# Altium footprint library oscilator.PcbLib: 34 footprints (part 2 of 3)
Each footprint in its own frame and in the unit in brackets; x right, y up, seen from the top. Pads: shape width x height; smd on the part's side, far side on the other; paste and mask are expansions set on the pad; w line width, h text height; cw(c..) or ccw(c..) is an arc to the next point about the centre after c.
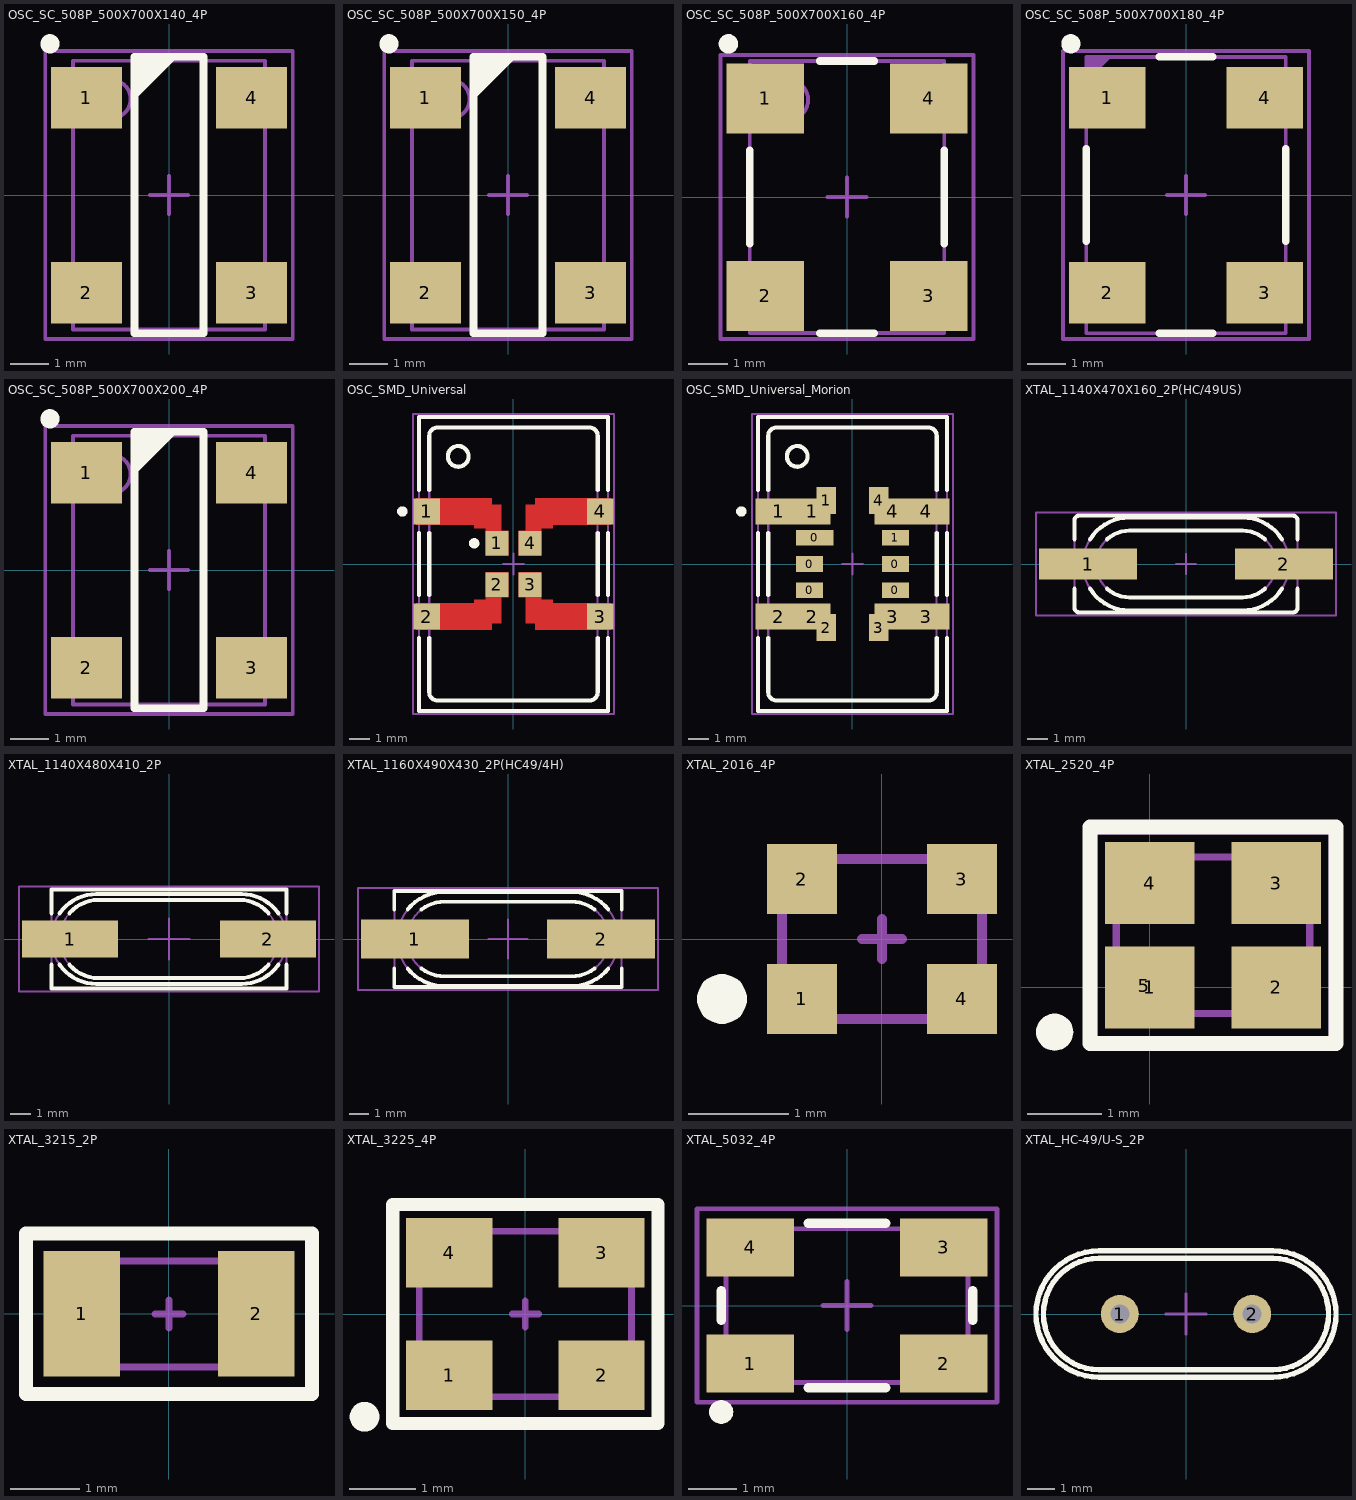
[diagram p1: the footprints below, top view; thin cyan lines are the x and y axes]

## OSC_SC_508P_500X700X140_4P [mm] "Oscillator,side concave; 5.08mm pitch; 4 pin,5.00mm L X 7.00mm W X 1.40mm H, IPC Medium Density"
height 1.4
pads (4):
  rect 1.85x1.6 smd: 1(-2.15,2.54) 2(-2.15,-2.54) 3(2.15,-2.54) 4(2.15,2.54)
Top Overlay:
  circle w0.25: c-3.1,3.94 r0.125
  lines w0.2: -0.9,2.6 0.1,3.6 ; -0.9,2.8 -0.1,3.6 ; -0.9,3 -0.3,3.6 ; -0.9,3.2 -0.5,3.6 ; -0.9,3.4 -0.7,3.6 ; -0.9,-3.6 -0.9,3.6 0.9,3.6 0.9,-3.6 -0.9,-3.6
Mechanical 1:
  circle w0.1: c-1.5,2.5 r0.5
  lines w0.1: -2.5,-3.5 -2.5,3.5 2.5,3.5 2.5,-3.5 -2.5,-3.5
Mechanical 15:
  lines w0.1: -0.5,0 0.5,0 ; 0,-0.5 0,0.5 ; -3.225,-3.75 -3.225,3.75 3.225,3.75 3.225,-3.75 -3.225,-3.75
3D body "OSCSC508P500X700X140-4N.stp": height 1.4, standoff 0, extent -2.6,-3.6 2.6,3.6

## OSC_SC_508P_500X700X150_4P [mm] "CFPS-72-73 Case, SMD Oscillator, side convave, 4 pins, 5.00x7.00mm"
height 1.5
pads (4):
  rect 1.85x1.6 smd: 1(-2.15,2.54) 2(-2.15,-2.54) 3(2.15,-2.54) 4(2.15,2.54)
Top Overlay:
  circle w0.25: c-3.1,3.94 r0.125
  lines w0.2: -0.9,2.6 0.1,3.6 ; -0.9,2.8 -0.1,3.6 ; -0.9,3 -0.3,3.6 ; -0.9,3.2 -0.5,3.6 ; -0.9,3.4 -0.7,3.6 ; -0.9,-3.6 -0.9,3.6 0.9,3.6 0.9,-3.6 -0.9,-3.6
Mechanical 1:
  circle w0.1: c-1.5,2.5 r0.5
  lines w0.1: -2.5,-3.5 -2.5,3.5 2.5,3.5 2.5,-3.5 -2.5,-3.5
Mechanical 15:
  lines w0.1: -0.5,0 0.5,0 ; 0,-0.5 0,0.5 ; -3.225,-3.75 3.225,-3.75 3.225,3.75 -3.225,3.75 -3.225,-3.75
3D body "OSCSC508P500X700X150-4N.stp": height 1.5, standoff 0, extent -2.6,-3.6 2.6,3.6

## OSC_SC_508P_500X700X160_4P [mm] "SMD Oscillator, side convave, 4 pins, 5.00x7.00mm"
height 1.6
pads (4):
  rect 2x1.8 smd: 1(-2.1,2.54) 2(-2.1,-2.54) 3(2.1,-2.54) 4(2.1,2.54)
Top Overlay:
  circle w0.25: c-3.05,3.94 r0.125
  lines w0.2: -2.5,-1.2 -2.5,1.2 ; -0.7,-3.5 0.7,-3.5 ; -0.7,3.5 0.7,3.5 ; 2.5,-1.2 2.5,1.2
Mechanical 1:
  circle w0.1: c-1.5,2.5 r0.5
  lines w0.1: -2.5,-3.5 2.5,-3.5 2.5,3.5 -2.5,3.5 -2.5,-3.5
Mechanical 15:
  lines w0.1: -0.5,0 0.5,0 ; 0,-0.5 0,0.5 ; -3.25,-3.65 3.25,-3.65 3.25,3.65 -3.25,3.65 -3.25,-3.65
3D body "OSCSC508P500X700X160-4N.stp": height 1.6, standoff 0, extent -2.6,-3.6 2.6,3.6

## OSC_SC_508P_500X700X180_4P [mm] "SMD Oscillator, side convave, 4 pins, 5.00x7.00mm"
height 1.8
pads (4):
  rect 2x1.6 smd: 1(-2.05,2.54) 2(-2.05,-2.54) 3(2.05,-2.54) 4(2.05,2.54)
Top Overlay:
  circle w0.25: c-3,3.94 r0.125
  lines w0.2: -2.6,-1.2 -2.6,1.2 ; -0.7,-3.6 0.7,-3.6 ; -0.7,3.6 0.7,3.6 ; 2.6,-1.2 2.6,1.2
Mechanical 1:
  lines w0.1: -2.6,3 -2,3.6 ; -2.6,3.1 -2.1,3.6 ; -2.6,3.2 -2.2,3.6 ; -2.6,3.3 -2.3,3.6 ; -2.6,3.4 -2.4,3.6 ; -2.6,3.5 -2.5,3.6 ; -2.6,-3.6 2.6,-3.6 2.6,3.6 -2.6,3.6 -2.6,-3.6
Mechanical 15:
  lines w0.1: -0.5,0 0.5,0 ; 0,-0.5 0,0.5 ; -3.2,-3.75 3.2,-3.75 3.2,3.75 -3.2,3.75 -3.2,-3.75
3D body "OSCSC508P500X700X180-4N.stp": height 1.8, standoff 0, extent -2.6,-3.6 2.6,3.6

## OSC_SC_508P_500X700X200_4P [mm] "CFPT Case, SMD Oscillator, side convave, 4 pins, 5.00x7.00mm"
height 2
pads (4):
  rect 1.85x1.6 smd: 1(-2.15,2.54) 2(-2.15,-2.54) 3(2.15,-2.54) 4(2.15,2.54)
Top Overlay:
  circle w0.25: c-3.1,3.94 r0.125
  lines w0.2: -0.9,2.6 0.1,3.6 ; -0.9,2.8 -0.1,3.6 ; -0.9,3 -0.3,3.6 ; -0.9,3.2 -0.5,3.6 ; -0.9,3.4 -0.7,3.6 ; -0.9,-3.6 0.9,-3.6 0.9,3.6 -0.9,3.6 -0.9,-3.6
Mechanical 1:
  circle w0.1: c-1.5,2.5 r0.5
  lines w0.1: -2.5,-3.5 2.5,-3.5 2.5,3.5 -2.5,3.5 -2.5,-3.5
Mechanical 15:
  lines w0.1: -0.5,0 0.5,0 ; 0,-0.5 0,0.5 ; -3.225,-3.75 -3.225,3.75 3.225,3.75 3.225,-3.75 -3.225,-3.75
3D body "OSCSC508P500X700X200-4N.stp": height 2, standoff 0, extent -2.6,-3.6 2.6,3.6

## OSC_SMD_Universal [mm] "Oscillator SMD Universal"
height 5.3
pads (8):
  rect 1.27x1.27 smd: 1(-4.19,2.54) 2(-4.19,-2.54) 3(4.19,-2.54) 4(4.19,2.54)
  rect 1.1x1.2 smd: 1(-0.8,1) 2(-0.8,-1) 3(0.8,-1) 4(0.8,1)
Top Layer:
  region: 1.35,-0.4 1.35,-1.806 0.601,-1.806 0.601,-1.6 0.25,-1.6 0.25,-0.4
  region: 1.9,-1.905 3.24,-1.905 4.695,-1.905 4.695,-3.175 1.055,-3.175 1.055,-2.875 0.601,-2.875 0.6,-2.228 0.601,-1.725 1.9,-1.725
  region: -1.35,-0.4 -1.35,-1.806 -0.6,-1.806 -0.6,-1.6 -0.25,-1.6 -0.25,-0.4
  region: 1.35,0.4 1.35,1.806 0.6,1.806 0.6,1.6 0.25,1.6 0.25,0.4
  region: 1.9,1.905 3.24,1.905 4.695,1.905 4.695,3.175 1.055,3.175 1.055,2.875 0.601,2.875 0.6,2.228 0.601,1.725 1.9,1.725
  region: -1.35,0.4 -1.35,1.806 -0.6,1.806 -0.6,1.6 -0.25,1.6 -0.25,0.4
  region: -1.9,-1.905 -3.24,-1.905 -4.695,-1.905 -4.695,-3.175 -1.055,-3.175 -1.055,-2.875 -0.6,-2.875 -0.6,-2.228 -0.6,-1.725 -1.9,-1.725
  region: -1.9,1.905 -3.24,1.905 -4.695,1.905 -4.695,3.175 -1.055,3.175 -1.055,2.875 -0.6,2.875 -0.6,2.228 -0.6,1.725 -1.9,1.725
Top Overlay:
  circle w0.2: c-2.67,5.2 r0.5
  circle w0.25: c-1.9,1 r0.125
  circle w0.25: c-5.375,2.54 r0.125
  lines w0.2: -4.57,-3.575 -4.57,-7.1 4.57,-7.1 4.57,-3.575 ; -4.57,-1.505 -4.57,1.505 ; -4.57,3.575 -4.57,7.1 4.57,7.1 4.57,3.575 ; -4.07,-3.575 -4.07,-6.2 ccw(c-3.67,-6.2) -3.67,-6.6 3.67,-6.6 ccw(c3.67,-6.2) 4.07,-6.2 4.07,-3.575 ; -4.07,-1.505 -4.07,1.505 ; -4.07,3.575 -4.07,6.2 cw(c-3.67,6.2) -3.67,6.6 3.67,6.6 cw(c3.67,6.2) 4.07,6.2 4.07,3.575 ; 4.07,-1.505 4.07,1.505 ; 4.57,-1.505 4.57,1.505
Mechanical 1:
  circle w0.1: c-2.67,5.2 r0.5
  lines w0.1: -4.57,-3.045 -4.07,-3.045 ; -4.57,-2.035 -4.07,-2.035 ; -4.57,2.035 -4.07,2.035 ; -4.57,3.045 -4.07,3.045 ; 4.07,-3.045 4.57,-3.045 ; 4.07,-2.035 4.57,-2.035 ; 4.07,2.035 4.57,2.035 ; 4.07,3.045 4.57,3.045 ; -4.57,-7.1 4.57,-7.1 4.57,-2.94 cw(c4.57,-2.54) 4.57,-2.14 4.57,2.14 cw(c4.57,2.54) 4.57,2.94 4.57,7.1 -4.57,7.1 -4.57,2.94 cw(c-4.57,2.54) -4.57,2.14 -4.57,-2.14 cw(c-4.57,-2.54) -4.57,-2.94 -4.57,-7.1 ; -4.07,-6.2 ccw(c-3.67,-6.2) -3.67,-6.6 3.67,-6.6 ccw(c3.67,-6.2) 4.07,-6.2 4.07,6.2 ccw(c3.67,6.2) 3.67,6.6 -3.67,6.6 ccw(c-3.67,6.2) -4.07,6.2 -4.07,-6.2
Mechanical 15:
  lines w0.1: -0.5,0 0,0 ; 0,-0.5 0,0 ; 0,0.5 0,0 ; 0.5,0 0,0 ; -4.85,-7.25 -4.85,7.25 4.85,7.25 4.85,-7.25 -4.85,-7.25
3D body "OSCCC200X250X90-4N.stp": height 0.8, standoff 0, extent -1.075,-1.325 1.075,1.325

## OSC_SMD_Universal_Morion [mm] "Oscillator SMD Universal"
height 5.3
pads (18):
  rect 1.3x0.75 smd: 0(-2.075,-1.27) 0(-2.075,0) 0(2.075,-1.27) 0(2.075,0) 1(2.075,1.27)
  rect 1.8x0.75 smd: 0(-1.825,1.27)
  rect 2.28x1.27 smd: 1(-3.555,2.54) 2(-3.555,-2.54) 3(3.555,-2.54) 4(3.555,2.54)
  rect 1.8x1.27 smd: 1(-1.955,2.54) 2(-1.955,-2.54) 3(1.955,-2.54) 4(1.955,2.54)
  rect 0.95x1.3 smd: 1(-1.27,3.075) 2(-1.27,-3.075) 3(1.27,-3.075) 4(1.27,3.075)
Top Overlay:
  circle w0.2: c-2.67,5.2 r0.5
  circle w0.25: c-5.375,2.54 r0.125
  lines w0.2: -4.57,-3.575 -4.57,-7.1 4.57,-7.1 4.57,-3.575 ; -4.57,-1.505 -4.57,1.505 ; -4.57,3.575 -4.57,7.1 4.57,7.1 4.57,3.575 ; -4.07,-3.575 -4.07,-6.2 ccw(c-3.67,-6.2) -3.67,-6.6 3.67,-6.6 ccw(c3.67,-6.2) 4.07,-6.2 4.07,-3.575 ; -4.07,-1.505 -4.07,1.505 ; -4.07,3.575 -4.07,6.2 cw(c-3.67,6.2) -3.67,6.6 3.67,6.6 cw(c3.67,6.2) 4.07,6.2 4.07,3.575 ; 4.07,-1.505 4.07,1.505 ; 4.57,-1.505 4.57,1.505
Mechanical 1:
  circle w0.1: c-2.67,5.2 r0.5
  lines w0.1: -4.57,-3.045 -4.07,-3.045 ; -4.57,-2.035 -4.07,-2.035 ; -4.57,2.035 -4.07,2.035 ; -4.57,3.045 -4.07,3.045 ; 4.07,-3.045 4.57,-3.045 ; 4.07,-2.035 4.57,-2.035 ; 4.07,2.035 4.57,2.035 ; 4.07,3.045 4.57,3.045 ; -4.57,-7.1 4.57,-7.1 4.57,-2.94 cw(c4.57,-2.54) 4.57,-2.14 4.57,2.14 cw(c4.57,2.54) 4.57,2.94 4.57,7.1 -4.57,7.1 -4.57,2.94 cw(c-4.57,2.54) -4.57,2.14 -4.57,-2.14 cw(c-4.57,-2.54) -4.57,-2.94 -4.57,-7.1 ; -4.07,-6.2 ccw(c-3.67,-6.2) -3.67,-6.6 3.67,-6.6 ccw(c3.67,-6.2) 4.07,-6.2 4.07,6.2 ccw(c3.67,6.2) 3.67,6.6 -3.67,6.6 ccw(c-3.67,6.2) -4.07,6.2 -4.07,-6.2
Mechanical 15:
  lines w0.1: 0,0 -0.5,0 0,0 ; 0,0 0,0.5 0,0 ; 0,0 0.5,0 0,0 ; 0,0 0,-0.5 0,0 ; -4.85,-7.25 -4.85,7.25 4.85,7.25 4.85,-7.25 -4.85,-7.25
3D body "OSC_KYOCERA_KT7050A.stp": height 1.7, standoff 0, extent -2.6,-3.6 2.6,3.6

## XTAL_1140X470X160_2P(HC/49US) [mm] "HC/49US Crystal;11.40mm L X 4.70mm W X 1.60mm H"
height 1.6
pads (2):
  rect 4.85x1.55 smd: 1(-4.85,0) 2(4.85,0)
Top Overlay:
  lines w0.2: -5.525,-1.225 -5.525,-2.15 ccw(c-5.275,-2.15) -5.275,-2.4 5.275,-2.4 ccw(c5.275,-2.15) 5.525,-2.15 5.525,-1.225 ; -5.525,1.225 -5.525,2.15 cw(c-5.275,2.15) -5.275,2.4 5.275,2.4 cw(c5.275,2.15) 5.525,2.15 5.525,1.225 ; -4.747,-1.225 ccw(c-2.8,0) -2.8,-2.3 2.8,-2.3 ccw(c2.8,0) 4.747,-1.225 ; -4.747,1.225 cw(c-2.8,0) -2.8,2.3 2.8,2.3 cw(c2.8,0) 4.747,1.225 ; -3.905,-1.225 ccw(c-2.8,0) -2.8,-1.65 2.8,-1.65 ccw(c2.8,0) 3.905,-1.225 ; -3.905,1.225 cw(c-2.8,0) -2.8,1.65 2.8,1.65 cw(c2.8,0) 3.905,1.225
Mechanical 1:
  lines w0.1: -5.525,-2.15 ccw(c-5.275,-2.15) -5.275,-2.4 5.275,-2.4 ccw(c5.275,-2.15) 5.525,-2.15 5.525,2.15 ccw(c5.275,2.15) 5.275,2.4 -5.275,2.4 ccw(c-5.275,2.15) -5.525,2.15 -5.525,-2.15 ; -2.8,-2.3 cw(c-2.8,0) -2.8,2.3 2.8,2.3 cw(c2.8,0) 2.8,-2.3 -2.8,-2.3 ; -2.8,-1.65 cw(c-2.8,0) -2.8,1.65 2.8,1.65 cw(c2.8,0) 2.8,-1.65 -2.8,-1.65
Mechanical 15:
  lines w0.1: -0.5,0 0.5,0 ; 0,-0.5 0,0.5 ; -7.425,-2.55 7.425,-2.55 7.425,2.55 -7.425,2.55 -7.425,-2.55
3D body "XTAL1105X470X160N.stp": height 1.6, standoff 0, extent -6.35,-2.4 6.35,2.4

## XTAL_1140X480X410_2P [mm] "HC-49/S3 Case, SMD Crystal; 2 Pins, Body 11.4mm L X 4.80mm W X 4.10mm H"
height 4.1
pads (2):
  rect 4.65x1.8 smd: 1(-4.8,0) 2(4.8,0)
Top Overlay:
  lines w0.2: -5.7,2.4 5.7,2.4 5.7,1.25 ; -5.699,-1.25 -5.7,-2.4 5.7,-2.4 5.7,-1.25 ; -5.696,1.25 -5.695,2.4 ; -5.305,-1.25 ccw(c-3.525,0) -3.525,-2.175 3.525,-2.175 ccw(c3.525,0) 5.305,-1.25 ; -5.305,1.25 cw(c-3.525,0) -3.525,2.175 3.525,2.175 cw(c3.525,0) 5.305,1.25 ; -4.831,-1.25 ccw(c-3.4,0) -3.4,-1.9 3.4,-1.9 ccw(c3.4,0) 4.831,-1.25 ; -4.831,1.25 cw(c-3.4,0) -3.4,1.9 3.4,1.9 cw(c3.4,0) 4.831,1.25
Mechanical 1:
  lines w0.1: -5.7,-0.4 -6.35,-0.4 -6.35,0.4 -5.7,0.4 ; -5.7,2.4 5.7,2.4 5.7,-2.4 -5.7,-2.4 -5.695,2.4 ; 5.7,-0.4 6.35,-0.4 6.35,0.4 5.7,0.4 ; -3.525,-2.175 cw(c-3.525,0) -3.525,2.175 3.525,2.175 cw(c3.525,0) 3.525,-2.175 -3.525,-2.175 ; -3.4,-1.9 cw(c-3.4,0) -3.4,1.9 3.4,1.9 cw(c3.4,0) 3.4,-1.9 -3.4,-1.9
Mechanical 15:
  lines w0.1: -1,0 0,0 ; -0.5,0 0.5,0 ; 0,-1 0,0 ; 0,-0.5 0,0.5 ; 0,1 0,0 ; 1,0 0,0 ; -7.275,-2.55 7.275,-2.55 7.275,2.55 -7.275,2.55 -7.275,-2.55
3D body "XTAL1140X480X410.stp": height 4.1, standoff 0, extent -6.35,-2.4 6.35,2.4

## XTAL_1160X490X430_2P(HC49/4H) [mm] "HC49/4H SMX Case, SMD Cristal, Body 11.6x4.9mm"
height 4.3
pads (2):
  rect 5.5x2 smd: 1(-4.75,0) 2(4.75,0)
Top Overlay:
  lines w0.2: -5.8,-1.5 -5.8,-2.45 5.8,-2.45 5.8,-1.5 ; -5.8,1.5 -5.8,2.45 5.8,2.45 5.8,1.5 ; -5.114,-1.512 ccw(c-3.25,0) -3.25,-2.4 3.25,-2.4 ccw(c3.25,0) 5.114,-1.512 ; -5.114,1.512 cw(c-3.25,0) -3.25,2.4 3.25,2.4 cw(c3.25,0) 5.114,1.512 ; -4.406,-1.508 ccw(c-3.25,0) -3.25,-1.9 3.25,-1.9 ccw(c3.25,0) 4.406,-1.508 ; -4.406,1.508 cw(c-3.25,0) -3.25,1.9 ; -3.211,1.9 3.25,1.9 cw(c3.25,0) 4.406,1.508
Mechanical 1:
  lines w0.1: -5.8,-0.3 -6.7,-0.3 -6.7,0.3 -5.8,0.3 ; -5.15,0 ccw(c-3.25,0) -3.25,-1.9 ; 5.15,0 cw(c3.25,0) 3.25,-1.9 ; 5.8,-0.3 6.7,-0.3 6.7,0.3 5.8,0.3 ; -3.25,-1.9 cw(c-3.25,0) -3.25,1.9 3.25,1.9 cw(c3.25,0) 3.25,-1.9 ; -3.25,-1.9 3.25,-1.9 ; -5.8,-2.45 5.8,-2.45 5.8,2.45 -5.8,2.45 -5.8,-2.45 ; -3.25,-2.4 cw(c-3.25,0) -3.25,2.4 3.25,2.4 cw(c3.25,0) 3.25,-2.4 -3.25,-2.4
Mechanical 15:
  lines w0.1: -1,0 0,0 ; 0,-1 0,0 ; 0,1 0,0 ; 1,0 0,0 ; -7.65,-2.6 7.65,-2.6 7.65,2.6 -7.65,2.6 -7.65,-2.6
3D body "XTAL_1160X490X430.stp": height 4.3, standoff 0, extent -7.15,-2.45 7.15,2.45

## XTAL_2016_4P [mm]
pads (5):
  rect 0.7x0.7 smd: 1(-0.8,-0.6) 2(-0.8,0.6) 3(0.8,0.6) 4(0.8,-0.6)
  round 0.5 on Top Overlay: ""(-1.6,-0.6)
Mechanical 1:
  lines w0.1: -1,-0.8 1,-0.8 1,0.8 -1,0.8 -1,-0.8
Mechanical 15:
  lines w0.1: -0.2,0 0.2,0 ; 0,-0.2 0,0.2 ; -1,-0.8 1,-0.8 1,0.8 -1,0.8 -1,-0.8
3D body "User Library-XRCGB27M000F2P00R0.STEP": height 0.65, standoff 0, extent -1,-0.8 1,0.8

## XTAL_2520_4P [mm]
pads (6):
  rect 1.2x1.1 smd: 1(0,0) 2(1.7,0) 3(1.7,1.4) 4(0,1.4)
  round 0.5 on Mech1: 5(-0.075,0.025)
  round 0.5 on Top Overlay: ""(-1.275,-0.6)
Top Overlay:
  lines w0.2: -0.8,-0.75 2.5,-0.75 2.5,2.15 -0.8,2.15 -0.8,-0.75
Mechanical 1:
  lines w0.1: -0.45,-0.35 -0.45,1.75 2.15,1.75 2.15,-0.35 -0.45,-0.35
Mechanical 15:
  lines w0.1: -0.75,-0.7 -0.75,2.1 2.45,2.1 2.45,-0.7 -0.75,-0.7
3D body "User Library-Crystal NDK NX2520SA series.STEP": height 0.55, standoff 0, extent -0.45,-0.35 2.15,1.75

## XTAL_3215_2P [mm]
pads (2):
  rect 1.1x1.8 smd: 1(-1.25,0) 2(1.25,0)
Top Overlay:
  lines w0.2: -2.05,-1.15 -2.05,1.15 2.05,1.15 2.05,-1.15 -2.05,-1.15
Mechanical 1:
  lines w0.1: -1.61,-0.76 1.61,-0.76 1.61,0.76 -1.61,0.76 -1.61,-0.76
Mechanical 15:
  lines w0.1: -0.2,0 0.2,0 ; 0,-0.2 0,0.2 ; -2.05,-1.151 2.05,-1.151 2.05,1.15 -2.05,1.15 -2.05,-1.151
3D body "User Library-ABS07.STEP": height 0.91, standoff 0, extent -1.61,-0.76 1.61,0.76

## XTAL_3225_4P [mm]
height 0.55
pads (4):
  rect 1.3x1.05 smd: 1(-1.15,-0.925) 2(1.15,-0.925) 3(1.15,0.925) 4(-1.15,0.925)
Top Overlay:
  circle w0.25: c-2.425,-1.55 r0.1
  lines w0.2: -2,-1.65 2,-1.65 2,1.65 -2,1.65 -2,-1.65
Mechanical 1:
  lines w0.1: -1.6,-1.25 -1.6,1.25 1.6,1.25 1.6,-1.25 -1.6,-1.25
Mechanical 15:
  lines w0.1: -0.2,0 0.2,0 ; 0,-0.2 0,0.2 ; -2,-1.7 -2,1.7 2,1.7 2,1.6 2,-1.7 -2,-1.7
3D body "User Library-User Library-Siward_SX3225.step": height 0.81, standoff 0, extent -1.6,-1.25 1.6,1.25

## XTAL_5032_4P [mm]
pads (6):
  rect 1.8x1.2 smd: 1(-2,-1.2) 2(2,-1.2) 3(2,1.2) 4(-2,1.2)
  round 0.5 on Top Overlay: ""(-2.6,-2.2)
  round 0.5 on Mech1: ""(-2,-1.1)
Top Overlay:
  lines w0.2: -2.6,-0.3 -2.6,0.3 ; -0.8,-1.7 0.8,-1.7 ; -0.8,1.7 0.8,1.7 ; 2.6,-0.3 2.6,0.3
Mechanical 1:
  lines w0.1: -2.5,-1.587 2.5,-1.587 2.5,1.587 -2.5,1.587 -2.5,-1.587
Mechanical 15:
  lines w0.1: -0.5,0 0.5,0 ; 0,-0.5 0,0.5 ; -3.1,-2 3.1,-2 3.1,2 -3.1,2 -3.1,-2
3D body "ABM3B.STEP": height 1.1, standoff -0.01, extent -2.5,-1.587 2.5,1.587

## XTAL_HC-49/U-S_2P [mm] "HC-49/U-S Leaded Cristal, Body 11.5x4.66mm; Pitch 4.88mm"
height 3.5
pads (2):
  round 1.4 hole 0.7: 1(-2.44,0) 2(2.44,0)
Top Overlay:
  lines w0.2: -3.2,-2.325 cw(c-3.2,0) -3.2,2.325 3.2,2.325 cw(c3.2,0) 3.2,-2.325 -3.2,-2.325 ; -3.2,-2.05 cw(c-3.2,0) -3.2,2.05 3.2,2.05 cw(c3.2,0) 3.2,-2.05 -3.2,-2.05
Mechanical 1:
  lines w0.1: -3.2,-2.325 cw(c-3.2,0) -3.2,2.325 3.2,2.325 cw(c3.2,0) 3.2,-2.325 -3.2,-2.325 ; -3.2,-2.05 cw(c-3.2,0) -3.2,2.05 3.2,2.05 cw(c3.2,0) 3.2,-2.05 -3.2,-2.05
Mechanical 15:
  lines w0.1: -0.75,0 0,0 ; 0,-0.75 0,0 ; 0,0.75 0,0 ; 0.75,0 0,0 ; -3.2,-2.325 cw(c-3.2,0) -3.2,2.325 3.2,2.325 cw(c3.2,0) 3.2,-2.325 -3.2,-2.325
3D body "XTAL_HC-49-U.stp": height 13.6, standoff -3.6, extent -5.525,-2.4 5.525,2.4